# EAGLE library part POWERMODULE_HOLE (library PowerModule)
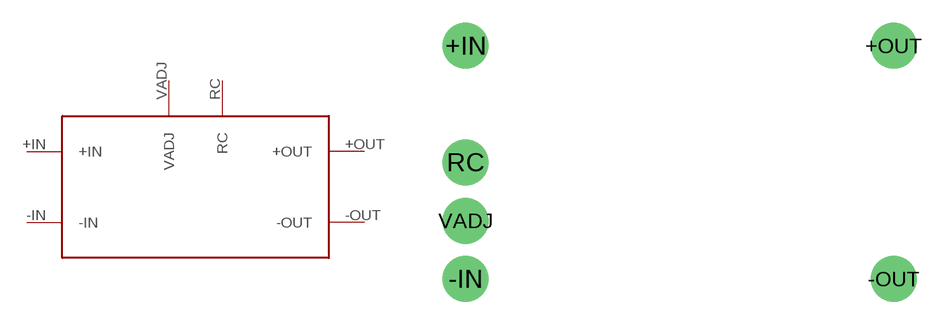
[diagram p1: symbol with the pads of POWERMODULE_FOOTPRINT_HOLE; footprint POWERMODULE_FOOTPRINT_HOLE]

Designator prefix -

## POWERMODULE_HOLE  [POWERMODULE_FOOTPRINT_HOLE]
+IN  +IN
+OUT  +OUT
-IN  -IN
-OUT  -OUT
RC  RC
VADJ  VADJ

## Footprint POWERMODULE_FOOTPRINT_HOLE (pad centres in mm)
drill 1.9 pad 3: +IN 0,-4.31; +OUT 27.94,-4.31; -IN 0,-19.55; -OUT 27.94,-19.55; RC 0,-11.93; VADJ 0,-15.74